# Altium footprint library SIM7670.PcbLib: 1 footprints
Each footprint in its own frame and in the unit in brackets; x right, y up, seen from the top. Pads: shape width x height; smd on the part's side, far side on the other; paste and mask are expansions set on the pad; w line width, h text height; cw(c..) or ccw(c..) is an arc to the next point about the centre after c.
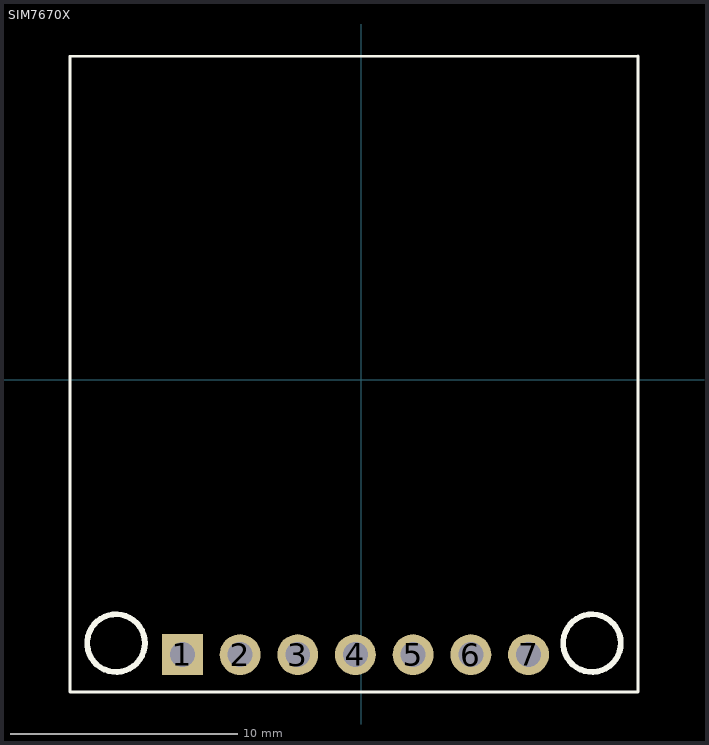
[diagram p0: the footprint, top view; thin cyan lines are the x and y axes]

## SIM7670X [mm]
pads (7):
  rect 1.8x1.8 hole 1.1: 1(-7.874,-12.114)
  round 1.8 hole 1.1: 2(-5.334,-12.114) 3(-2.794,-12.114) 4(-0.254,-12.114) 5(2.286,-12.114) 6(4.826,-12.114) 7(7.366,-12.114)
Top Overlay:
  circle w0.254: c-10.795,-11.606 r1.27
  circle w0.254: c10.16,-11.606 r1.27
  lines w0.127: 12.192,14.235 -12.827,14.235 -12.827,-13.765 12.173,-13.765 12.192,-13.746 12.192,14.254